# Altium schematic symbol library LED-RGB.SchLib: 1 symbol
Pins are listed as number, name and electrical type; pins without a type are passive.

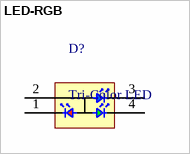
[diagram p0: symbol LED-RGB]

## LED-RGB
designator D?, comment Tri-Color LED
pins: 1 R_C "Red Cathode", 2 A "Common Anode", 3 B_C "Blue Cathode", 4 G_C "Green Cathode"